# EAGLE library part 746X101 (library Custom_Library)
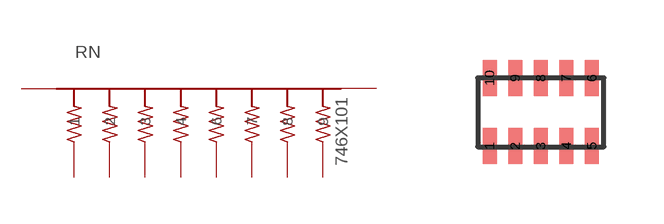
[diagram p20: symbol with the pads of 746X101; footprint 746X101]

Designator prefix RN

## 746X101  [746X101]
1  1
2  2
3  3
4  4
5  5
6  6
7  7
8  8
9  9
10  10

## Footprint 746X101 (pad centres in mm)
smd 0.35 x 0.9: 1 -1.27,-0.9; 2 -0.63,-0.9; 3 0.01,-0.9; 4 0.65,-0.9; 5 1.29,-0.9; 6 1.29,0.8; 7 0.65,0.8; 8 0.01,0.8; 9 -0.63,0.8; 10 -1.27,0.8